# Altium footprint library Optoelectronics.PcbLib: 2 footprints
Each footprint in its own frame and in the unit in brackets; x right, y up, seen from the top. Pads: shape width x height; smd on the part's side, far side on the other; paste and mask are expansions set on the pad; w line width, h text height; cw(c..) or ccw(c..) is an arc to the next point about the centre after c.
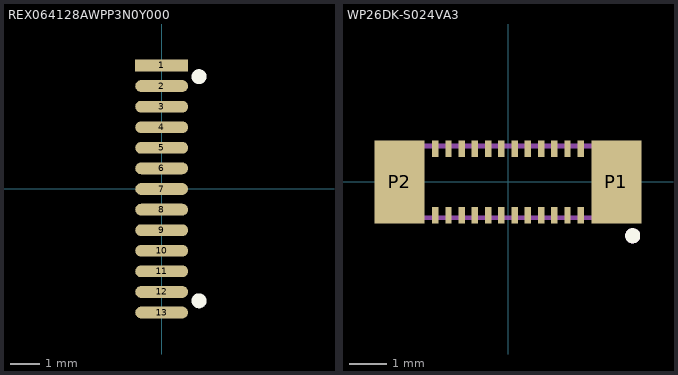
[diagram p0: the footprints below, top view; thin cyan lines are the x and y axes]

## REX064128AWPP3N0Y000 [mm] "OLED 64x128"
pads (13):
  rect 1.8x0.4 smd: 1(0,4.191)
  oval 1.8x0.4 smd: 2(0,3.491) 3(0,2.791) 4(0,2.091) 5(0,1.391) 6(0,0.691) 7(0,-0.009) 8(0,-0.709) 9(0,-1.409) 10(0,-2.109) 11(0,-2.809) 12(0,-3.509) 13(0,-4.209)
Top Overlay:
  circle w0.254: c1.27,3.81 r0.127
  circle w0.254: c1.27,-3.81 r0.127

## WP26DK-S024VA3 [mm]
pads (26):
  rect 0.17x0.44 smd paste+0 mask+0: 1(1.925,-0.88) 2(1.925,0.88) 3(1.575,-0.88) 4(1.575,0.88) 5(1.225,-0.88) 6(1.225,0.88) 7(0.875,-0.88) 8(0.875,0.88) 9(0.525,-0.88) 10(0.525,0.88) 11(0.175,-0.88) 12(0.175,0.88) 13(-0.175,-0.88) 14(-0.175,0.88) 15(-0.525,-0.88) 16(-0.525,0.88) 17(-0.875,-0.88) 18(-0.875,0.88) 19(-1.225,-0.88) 20(-1.225,0.88) 21(-1.575,-0.88) 22(-1.575,0.88) 23(-1.925,-0.88) 24(-1.925,0.88)
  rect 1.33x2.2 smd paste-2 mask+0: P1(2.87,0) P2(-2.87,0)
Top Overlay:
  circle w0.2: c3.3,-1.425 r0.1
Top Paste:
  region: -2.505,0.725 -3.205,0.725 -3.205,1.1 -2.505,1.1
  region: -2.505,-1.1 -3.205,-1.1 -3.205,-0.725 -2.505,-0.725
  region: 3.205,0.725 2.505,0.725 2.505,1.1 3.205,1.1
  region: 3.205,-1.1 2.505,-1.1 2.505,-0.725 3.205,-0.725
  region: -3.255,-0.3 -3.535,-0.3 -3.535,0.3 -3.255,0.3
  region: 3.535,-0.3 3.255,-0.3 3.255,0.3 3.535,0.3
Top Solder:
  region: -2.505,0.725 -3.205,0.725 -3.205,1.1 -2.505,1.1
  region: -2.505,-1.1 -3.205,-1.1 -3.205,-0.725 -2.505,-0.725
  region: 3.205,0.725 2.505,0.725 2.505,1.1 3.205,1.1
  region: 3.205,-1.1 2.505,-1.1 2.505,-0.725 3.205,-0.725
  region: 1.36,0.66 1.09,0.66 1.09,1.15 1.36,1.15
  region: 1.01,0.66 0.74,0.66 0.74,1.15 1.01,1.15
  region: -1.79,0.66 -2.06,0.66 -2.06,1.15 -1.79,1.15
  region: 1.71,0.66 1.44,0.66 1.44,1.15 1.71,1.15
  region: 2.06,0.66 1.79,0.66 1.79,1.15 2.06,1.15
  region: 1.36,-1.15 1.09,-1.15 1.09,-0.66 1.36,-0.66
  region: 1.71,-1.15 1.44,-1.15 1.44,-0.66 1.71,-0.66
  region: 2.06,-1.15 1.79,-1.15 1.79,-0.66 2.06,-0.66
  region: 1.01,-1.15 0.74,-1.15 0.74,-0.66 1.01,-0.66
  region: -1.79,-1.15 -2.06,-1.15 -2.06,-0.66 -1.79,-0.66
  region: -3.255,-0.3 -3.535,-0.3 -3.535,0.3 -3.255,0.3
  region: 3.535,-0.3 3.255,-0.3 3.255,0.3 3.535,0.3
  region: -0.04,0.66 -0.31,0.66 -0.31,1.15 -0.04,1.15
  region: 0.31,0.66 0.04,0.66 0.04,1.15 0.31,1.15
  region: 0.66,0.66 0.39,0.66 0.39,1.15 0.66,1.15
  region: -0.04,-1.15 -0.31,-1.15 -0.31,-0.66 -0.04,-0.66
  region: 0.31,-1.15 0.04,-1.15 0.04,-0.66 0.31,-0.66
  region: 0.66,-1.15 0.39,-1.15 0.39,-0.66 0.66,-0.66
  region: -1.44,0.66 -1.71,0.66 -1.71,1.15 -1.44,1.15
  region: -1.09,0.66 -1.36,0.66 -1.36,1.15 -1.09,1.15
  region: -0.74,0.66 -1.01,0.66 -1.01,1.15 -0.74,1.15
  region: -0.39,0.66 -0.66,0.66 -0.66,1.15 -0.39,1.15
  region: -1.44,-1.15 -1.71,-1.15 -1.71,-0.66 -1.44,-0.66
  region: -1.09,-1.15 -1.36,-1.15 -1.36,-0.66 -1.09,-0.66
  region: -0.74,-1.15 -1.01,-1.15 -1.01,-0.66 -0.74,-0.66
  region: -0.39,-1.15 -0.66,-1.15 -0.66,-0.66 -0.39,-0.66
Mechanical 13:
  circle w0.2: c3.3,-1.425 r0.1
  lines w0.127: -3.375,-0.95 -3.375,0.95 3.375,0.95 3.375,-0.95 -3.375,-0.95
3D body "WP26DK-S024VA3-R15000.stp": height 0.6, standoff 0, extent -3.375,-0.95 3.375,0.95